# EAGLE library part LM3406 (library texas)
LED BUCK REGULATOR For Driving High Power LEDs
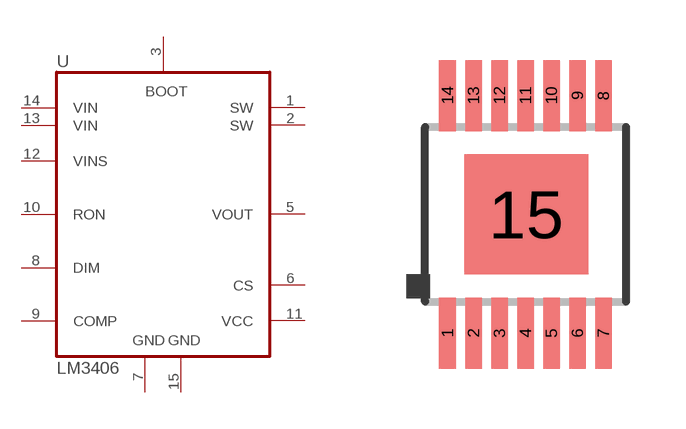
[diagram p80: symbol with the pads of TSSOP14-PWP; footprint TSSOP14-PWP]

Designator prefix U

## LM3406  [TSSOP14-PWP]
1  SW
2  SW
3  BOOT  in
5  VOUT  in
6  CS  in
7  GND  pwr
8  DIM  in
9  COMP  out
10  RON  in
11  VCC
12  VINS  in
13  VIN  in
14  VIN  in
15  DAP  pwr

## Footprint TSSOP14-PWP (pad centres in mm)
Thin Shrink Small Outline Plastic 14 Exposed Pad, PWP0014A
smd 0.42 x 1.78: 1 -1.965,-2.97; 2 -1.315,-2.97; 3 -0.665,-2.97; 4 -0.015,-2.97; 5 0.635,-2.97; 6 1.285,-2.97; 7 1.935,-2.97; 8 1.935,2.97; 9 1.285,2.97; 10 0.635,2.97; 11 -0.015,2.97; 12 -0.665,2.97; 13 -1.315,2.97; 14 -1.965,2.97
smd 3.1 x 3: 15 0,0